# Altium footprint library DIP-6.PcbLib: 1 footprints
Each footprint in its own frame and in the unit in brackets; x right, y up, seen from the top. Pads: shape width x height; smd on the part's side, far side on the other; paste and mask are expansions set on the pad; w line width, h text height; cw(c..) or ccw(c..) is an arc to the next point about the centre after c.
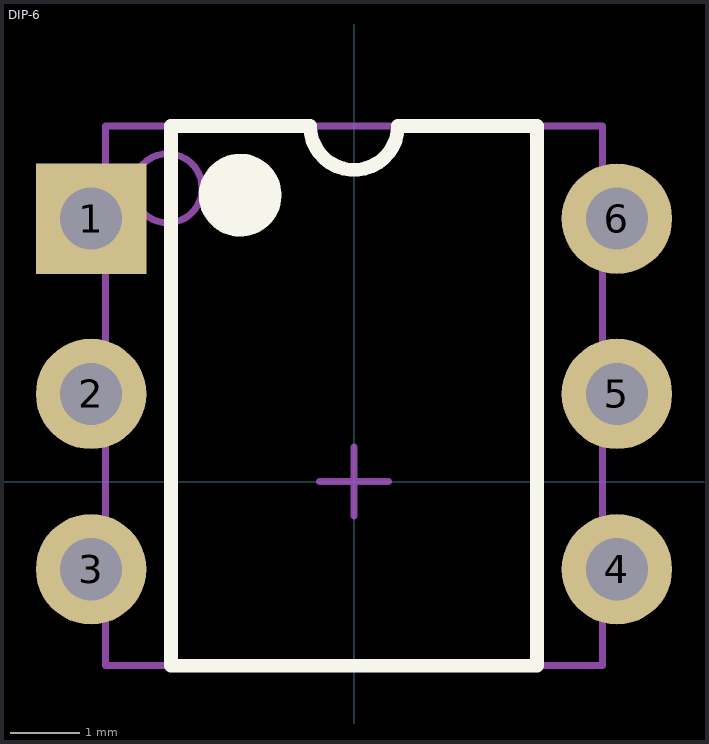
[diagram p0: the footprint, top view; thin cyan lines are the x and y axes]

## DIP-6 [mm] "6 Leads; Pitch 2.54 mm"
height 5.08
pads (6):
  rect 1.6x1.6 hole 0.9: 1(-3.81,3.81)
  round 1.6 hole 0.9: 2(-3.81,1.27) 3(-3.81,-1.27) 4(3.81,-1.27) 5(3.81,1.27) 6(3.81,3.81)
Top Overlay:
  circle w0.6: c-1.65,4.15 r0.3
  lines w0.2: -2.65,-2.667 -2.65,5.15 -0.635,5.15 ccw(c0,5.15) 0.635,5.15 2.65,5.15 2.65,-2.667 -2.65,-2.667
Mechanical 13:
  circle w0.1: c-2.7,4.25 r0.5
  lines w0.1: -3.6,-2.667 -3.6,5.15 3.6,5.15 3.6,-2.667 -3.6,-2.667
Mechanical 15:
  lines w0.1: -0.5,0 0.5,0 ; 0,-0.5 0,0.5
3D body: height 4.5, standoff -2.8, extent -3.935,-2.32 3.935,4.8